# Altium schematic symbol library Connector - Dev Board.SchLib: 1 symbol
Pins are listed as number, name and electrical type; pins without a type are passive.

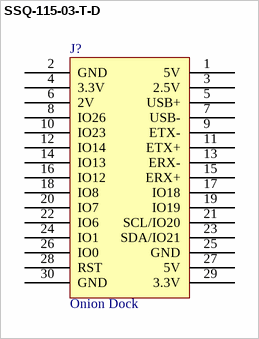
[diagram p0: symbol SSQ-115-03-T-D]

## SSQ-115-03-T-D
designator J?, comment Onion Dock
ONION OMEGA DOCK CONNECTOR; Part Number: SSQ-115-03-T-D; Manufacturer: Samtec Inc.; Pitch: 0.100" (2.54mm); Number Of Positions: 30; PartId: 9300; Supplier 1: Digi-Key; Supplier Part Number 1: SAM1204-15-ND; ComponentLink1Description: Datasheet; ComponentLink1URL: http://suddendocs.samtec.com/prints/ssq-1xx-xx-xxx-x-xx-xxx-xx-x-mkt.pdf; ComponentLink2Description: Digi-Key Listing; ComponentLink2URL: http://www.digikey.com/product-detail/en/SSQ-115-03-T-D/SAM1204-15-ND/1111845; Price: 3.74; Type: Receptacle; Contact Finish: Tin; Fastening Type: -; Number Of Rows: 2; Colour: Black
footprint Samtec SSQ-115-03-T-D
pins: 1 5V, 2 GND, 3 2.5V, 4 3.3V, 5 USB+, 6 2V, 7 USB-, 8 IO26, 9 ETX-, 10 IO23, 11 ETX+, 12 IO14, 13 ERX-, 14 IO13, 15 ERX+, 16 IO12, 17 IO18, 18 IO8, 19 IO19, 20 IO7, 21 SCL/IO20, 22 IO6, 23 SDA/IO21, 24 IO1, 25 GND, 26 IO0, 27 5V, 28 RST, 29 3.3V, 30 GND